# EAGLE library part TP2350B (library Audio-Power-amlifier V.2.0)
The TP2350B is a two-channel, 300W (4Ω) per channel Amplifier Driver that uses Tripath’s proprietary Digital Power Processing (DPPTM) technology. Class-T amplifiers offer both the audio fidelity of Class-AB and the power efficiency of Class-D amplifiers.
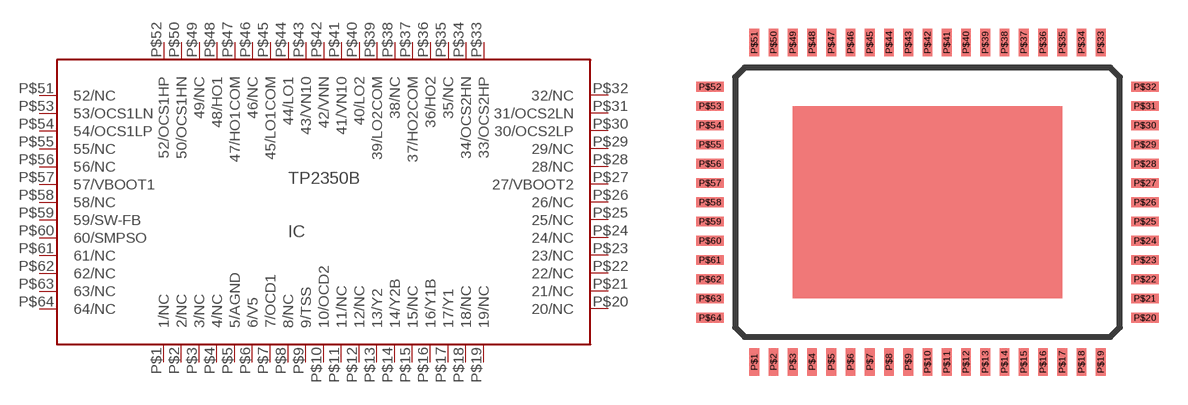
[diagram p87: symbol with the pads of LQFP-64_20X14; footprint LQFP-64_20X14]

Designator prefix IC

## TP2350B  [LQFP-64_20X14]
P$1  1/NC  nc
P$2  2/NC  nc
P$3  3/NC  nc
P$4  4/NC  nc
P$5  5/AGND  pwr
P$6  6/V5  pwr
P$7  7/OCD1
P$8  8/NC  nc
P$9  9/TSS
P$10  10/OCD2
P$11  11/NC  nc
P$12  12/NC  nc
P$13  13/Y2
P$14  14/Y2B
P$15  15/NC  nc
P$16  16/Y1B
P$17  17/Y1
P$18  18/NC  nc
P$19  19/NC  nc
P$20  20/NC  nc
P$21  21/NC  nc
P$22  22/NC  nc
P$23  23/NC  nc
P$24  24/NC  nc
P$25  25/NC  nc
P$26  26/NC  nc
P$27  27/VBOOT2
P$28  28/NC  nc
P$29  29/NC  nc
P$30  30/OCS2LP
P$31  31/OCS2LN
P$32  32/NC  nc
P$33  33/OCS2HP
P$34  34/OCS2HN
P$35  35/NC  nc
P$36  36/HO2  out
P$37  37/HO2COM
P$38  38/NC  nc
P$39  39/LO2COM
P$40  40/LO2  out
P$41  41/VN10
P$42  42/VNN
P$43  43/VN10
P$44  44/LO1  out
P$45  45/LO1COM
P$46  46/NC  nc
P$47  47/HO1COM
P$48  48/HO1  out
P$49  49/NC  nc
P$50  50/OCS1HN
P$51  52/NC  nc
P$52  52/OCS1HP
P$53  53/OCS1LN
P$54  54/OCS1LP
P$55  55/NC  nc
P$56  56/NC  nc
P$57  57/VBOOT1
P$58  58/NC  nc
P$59  59/SW-FB
P$60  60/SMPSO
P$61  61/NC  nc
P$62  62/NC  nc
P$63  63/NC  nc
P$64  64/NC  nc

## Footprint LQFP-64_20X14 (pad centres in mm)
64-PIN-LQFP_20x14
smd 0.5 x 1.422: P$1 -9,-8.3; P$2 -8,-8.3; P$3 -7,-8.3; P$4 -6,-8.3; P$5 -5,-8.3; P$6 -4,-8.3; P$7 -3,-8.3; P$8 -2,-8.3; P$9 -1,-8.3; P$10 0,-8.3; P$11 1,-8.3; P$12 2,-8.3; P$13 3,-8.3; P$14 4,-8.3; P$15 5,-8.3; P$16 6,-8.3; P$17 7,-8.3; P$18 8,-8.3; P$19 9,-8.3; P$33 9,8.3; P$34 8,8.3; P$35 7,8.3; P$36 6,8.3; P$37 5,8.3; P$38 4,8.3; P$39 3,8.3; P$40 2,8.3; P$41 1,8.3; P$42 0,8.3; P$43 -1,8.3; P$44 -2,8.3; P$45 -3,8.3; P$46 -4,8.3; P$47 -5,8.3; P$48 -6,8.3; P$49 -7,8.3; P$50 -8,8.3; P$51 -9,8.3
smd 1.422 x 0.5: P$20 11.3,-6; P$21 11.3,-5; P$22 11.3,-4; P$23 11.3,-3; P$24 11.3,-2; P$25 11.3,-1; P$26 11.3,0; P$27 11.3,1; P$28 11.3,2; P$29 11.3,3; P$30 11.3,4; P$31 11.3,5; P$32 11.3,6; P$52 -11.3,6; P$53 -11.3,5; P$54 -11.3,4; P$55 -11.3,3; P$56 -11.3,2; P$57 -11.3,1; P$58 -11.3,0; P$59 -11.3,-1; P$60 -11.3,-2; P$61 -11.3,-3; P$62 -11.3,-4; P$63 -11.3,-5; P$64 -11.3,-6